# Altium schematic symbol library NCP1529.SchLib: 1 symbol
Pins are listed as number, name and electrical type; pins without a type are passive.

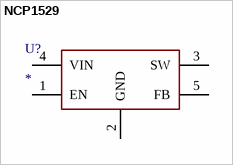
[diagram p0: symbol NCP1529]

## NCP1529
designator U?
footprint TSOP5
pins: 1 EN, 2 GND, 3 SW, 4 VIN, 5 FB